# EAGLE library part 1X6 (library CONNECTORS)
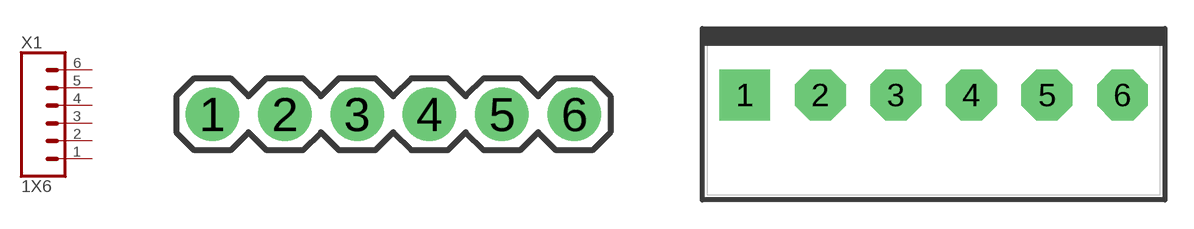
[diagram p0: symbol with the pads of 1X06DUPON; footprints 1X06DUPON, B6P-VH]

Designator prefix X1

## 1X6DUPON  [1X06DUPON]
1  1  pas
2  2  pas
3  3  pas
4  4  pas
5  5  pas
6  6  pas

## 1X6B6P-VH  [B6P-VH]
Pads as for 1X06DUPON

## 1X6MOLEX-06  [MOLEX-06]
Pads as for 1X06DUPON

## 1X6JST-XH-06  [JST-XH-06]
Pads as for 1X06DUPON

## Footprint 1X06DUPON (pad centres in mm)
drill 1.016 pad 1.88: 1 0,0; 2 2.54,0; 3 5.08,0; 4 7.62,0; 5 10.16,0; 6 12.7,0

## Footprint B6P-VH (pad centres in mm)
HEADER
drill 1.778 square: 1 -9.9,0
drill 1.778 octagon: 2 -5.94,0; 3 -1.98,0; 4 1.98,0; 5 5.94,0; 6 9.9,0

## Footprint MOLEX-06 (pad centres in mm)
KK® 254 Solid Header, Vertical, with Friction Lock, 6 Circuits, Tin (Sn) Plating Datasheet <http://www.molex.com/pdm_docs/sd/022232061_sd.pdf>
drill 1 long: 1 -6.35,0; 2 -3.81,0; 3 -1.27,0; 4 1.27,0; 5 3.81,0; 6 6.35,0

## Footprint JST-XH-06 (pad centres in mm)
JST XH Connector Long Pads (Package) Wire to board connector. Pitch: 2,54 mm, (0.100") Number of pins: 6 Created by Rembrandt Electronics www.rembrandtelectronics.com
drill 1.016 long: 1 -6.35,0; 2 -3.81,0; 3 -1.27,0; 4 1.27,0; 5 3.81,0; 6 6.35,0